# Altium schematic symbol library 691 311 700 1xx.SchLib: 6 symbols
Pins are listed as number, name and electrical type; pins without a type are passive.

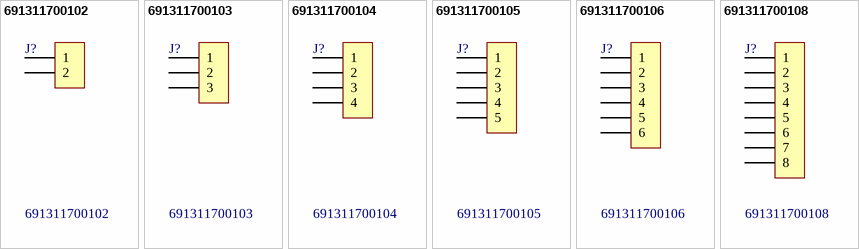
[diagram p0: symbols 691311700102 to 691311700108]

## 691311700102
designator J?
WR-TBL Terminal block - serie 3117 - 5.00mm; Manufacturer: Würth Elektronik eiSos GmbH; ComponentLink1 Description: Manufacturer; ComponentLink2 Description: Datasheet; NoPins: 02; Created Date: 6 January 2014; partNo: 691311700102; ComponentLink1URL: http://www.we-online.com; ComponentLink2URL: http://katalog.we-online.de/em/datasheet/6913117001xx.pdf; Created by: Karrer Zheng
footprint 691311700102 (5.00mm - PCB Vertical Closed - 02p)
pins: 1, 2

## 691311700103
designator J?
WR-TBL Terminal block - serie 3117 - 5.00mm; Manufacturer: Würth Elektronik eiSos GmbH; ComponentLink1 Description: Manufacturer; ComponentLink2 Description: Datasheet; NoPins: 03; Created Date: 6 January 2014; partNo: 691311700103; ComponentLink1URL: http://www.we-online.com; ComponentLink2URL: http://katalog.we-online.de/em/datasheet/6913117001xx.pdf; Created by: Karrer Zheng
footprint 691311700103 (5.00mm - PCB Vertical Closed - 03p)
pins: 1, 2, 3

## 691311700104
designator J?
WR-TBL Terminal block - serie 3117 - 5.00mm; Manufacturer: Würth Elektronik eiSos GmbH; ComponentLink1 Description: Manufacturer; ComponentLink2 Description: Datasheet; NoPins: 04; Created Date: 6 January 2014; partNo: 691311700104; ComponentLink1URL: http://www.we-online.com; ComponentLink2URL: http://katalog.we-online.de/em/datasheet/6913117001xx.pdf; Created by: Karrer Zheng
footprint 691311700104 (5.00mm - PCB Vertical Closed - 04p)
pins: 1, 2, 3, 4

## 691311700105
designator J?
WR-TBL Terminal block - serie 3117 - 5.00mm; Manufacturer: Würth Elektronik eiSos GmbH; ComponentLink1 Description: Manufacturer; ComponentLink2 Description: Datasheet; NoPins: 05; Created Date: 6 January 2014; partNo: 691311700105; ComponentLink1URL: http://www.we-online.com; ComponentLink2URL: http://katalog.we-online.de/em/datasheet/6913117001xx.pdf; Created by: Karrer Zheng
footprint 691311700105 (5.00mm - PCB Vertical Closed - 05p)
pins: 1, 2, 3, 4, 5

## 691311700106
designator J?
WR-TBL Terminal block - serie 3117 - 5.00mm; Manufacturer: Würth Elektronik eiSos GmbH; ComponentLink1 Description: Manufacturer; ComponentLink2 Description: Datasheet; NoPins: 06; Created Date: 6 January 2014; partNo: 691311700106; ComponentLink1URL: http://www.we-online.com; ComponentLink2URL: http://katalog.we-online.de/em/datasheet/6913117001xx.pdf; Created by: Karrer Zheng
footprint 691311700106 (5.00mm - PCB Vertical Closed - 06p)
pins: 1, 2, 3, 4, 5, 6

## 691311700108
designator J?
WR-TBL Terminal block - serie 3117 - 5.00mm; Manufacturer: Würth Elektronik eiSos GmbH; ComponentLink1 Description: Manufacturer; ComponentLink2 Description: Datasheet; NoPins: 08; Created Date: 6 January 2014; partNo: 691311700108; ComponentLink1URL: http://www.we-online.com; ComponentLink2URL: http://katalog.we-online.de/em/datasheet/6913117001xx.pdf; Created by: Karrer Zheng
footprint 691311700108 (5.00mm - PCB Vertical Closed - 08p)
pins: 1, 2, 3, 4, 5, 6, 7, 8